# Altium integrated library Infineon_Microcontroller.IntLib: 721 symbols (part 34 of 66)
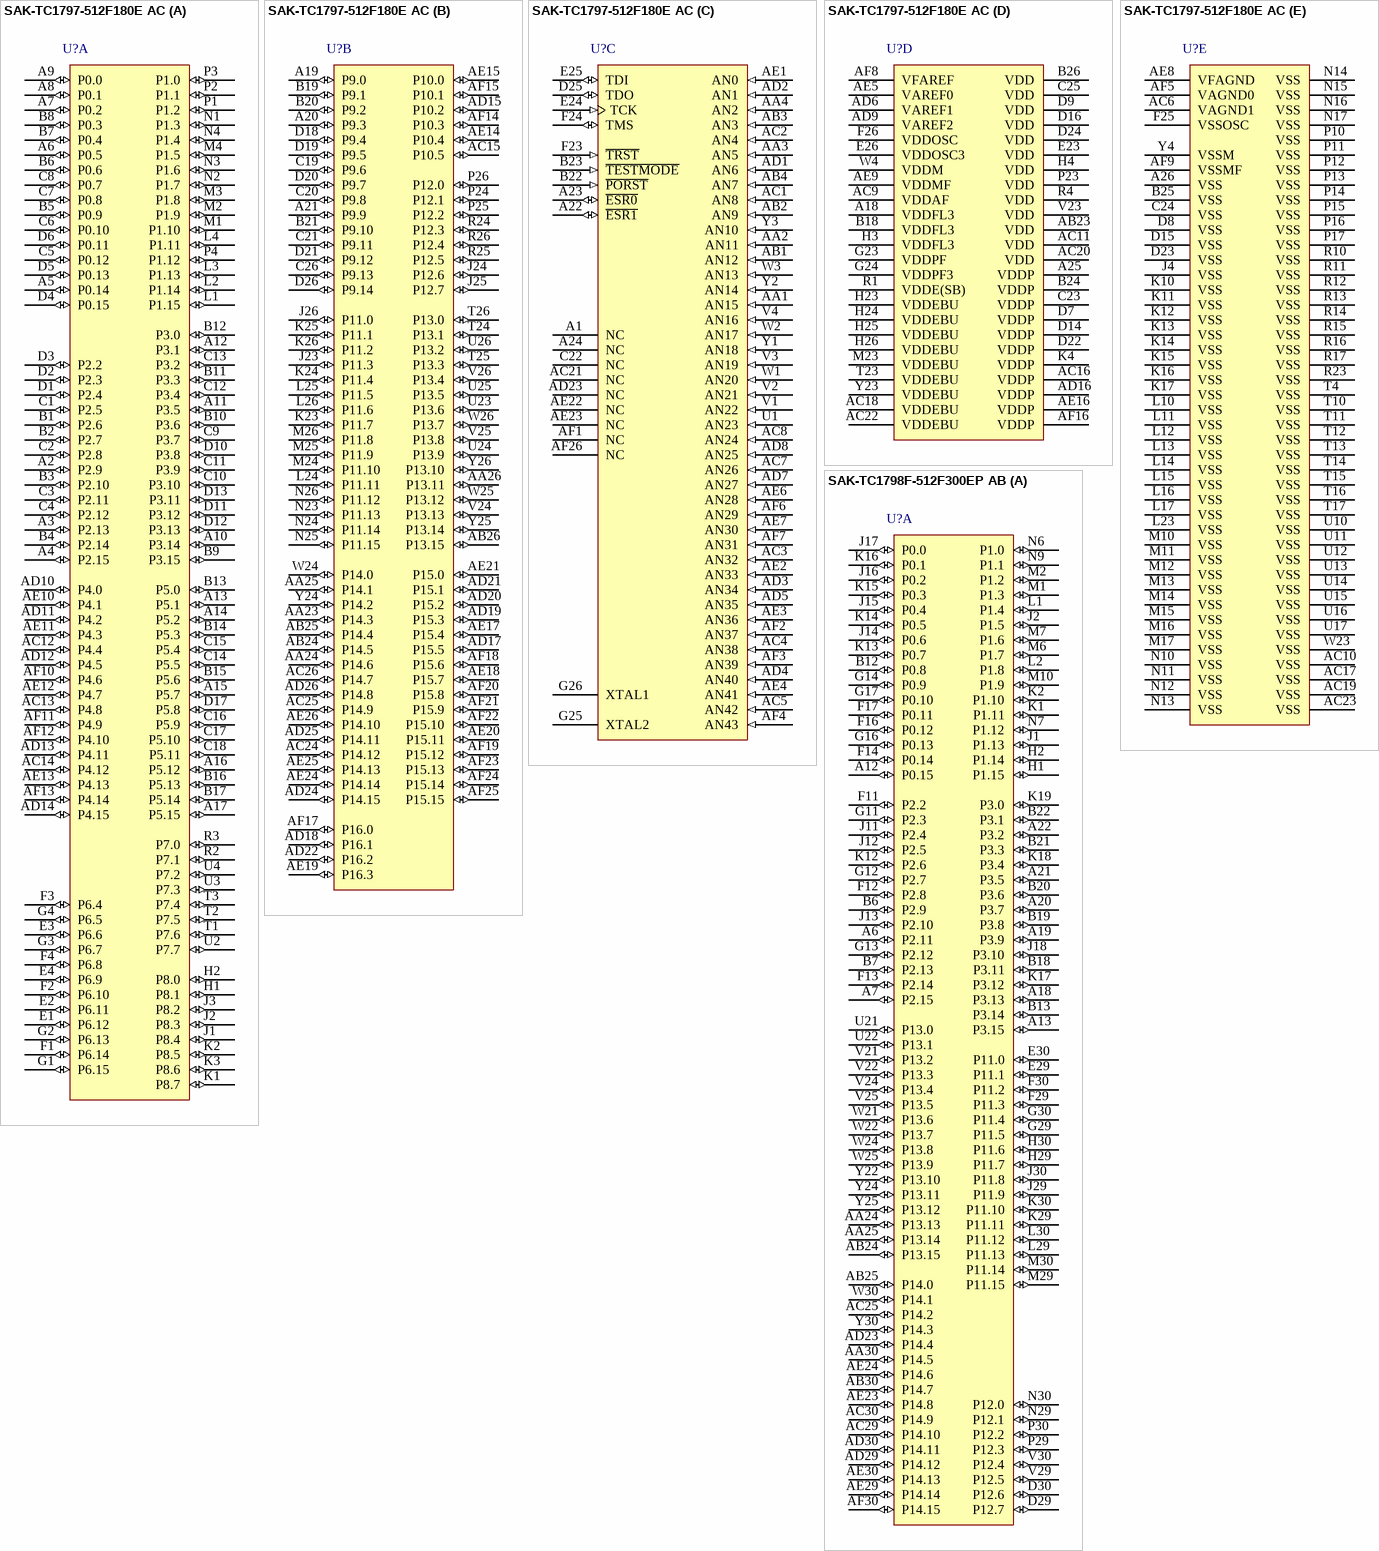
[diagram p151: symbols SAK-TC1797-512F180E AC to SAK-TC1798F-512F300EP AB]

## SAK-TC1797-512F180E AC
designator U?
180 MHz AUDO MCU with 4 MB Program Memory, 224 KByte SRAM, 3.3 V; 5 V, -40 to 125 degC, PG-BGA-416, Reel, Green; Manufacturer: Infineon; PartNumber: SAK-TC1797-512F180E AC; A / D input lines (incl. FADC): 48; CAN Nodes: 4; Digital I/O Lines: 221; DMA Channels: 16; DSP functionality (e.g MDU/MAC): TRUE; I/O Operation Voltages: 3.3 V, 5 V; Instruction set architecture: TriCore v1.3.1; Instruction width [bits]: 32/16; LIN BSL loader (for fast Flash programming): FALSE; Max Clock Frequency: 180 MHz; Number of ADC Modules: 3; On-chip Voltage Regulator: FALSE; Program Memory: 4 MB; Serial I/O Interfaces: 8; Timed I/O Pins (PWM-Ch,CAPCOM): 118; Timer / Counter: 228; Type of Memory: Flash; Type of Serial I/O Interfaces: ASC(2), SSC(2), MSC(2), MLI(2); DatasheetVersion: Rev. 1.2; PackageVersion: Feb-08; PackageReference: PG-BGA-416-10; PackageDescription: 416-Pin Plastic (Green) Ball Grid Array Package, Body 27 x 27 mm, Pitch 1 mm; Supplier 1: Digi-Key; Supplier Part Number 1: SAK-TC1797-512F180E AC-ND; E2PROM Emulation (Data-Flash): TRUE; External Bus interface: TRUE; FlexRay TM: TRUE; Floating Point Unit: TRUE; Green: TRUE; Halogen-free: TRUE; On-chip clock generation: TRUE; Oscillator Watchdog: TRUE; Packing: Reel; Peripheral Control Processor (PCP): TRUE; Power Modes: 3; SRAM (incl. Cache): 224 KByte; Watchdog Timer: TRUE; Mounting Technology: Surface Mount; ComponentLink1Description: Manufacturer URL; ComponentLink1URL: http://www.infineon.com/; ComponentLink2Description: Datasheet; ComponentLink2URL: http://www.infineon.com/dgdl/TC1797_DS_V1+2.pdf?folderId=db3a3043156fd5730115b892639c0e97&fileId=db3a30431ed1d7b2011efeaa4ad16b6d; ComponentLink3Description: Package Specification; ComponentLink3URL: http://www.infineon.com/dgdl/PG-BGA-416-4%2C-10%2C-13%2C-14-Package_Overview.pdf?folderId=db3a304317a748360117ac3a3cfd7449&fileId=db3a304317a748360117b12de3bd682e
footprint INF-PG-BGA-416-10 (BGA, 416-Balls, Body 27x27mm, Pitch 1mm)
part A pins: A2 P2.9 (io), A3 P2.13 (io), A4 P2.15 (io), A5 P0.14 (io), A6 P0.5 (io), A7 P0.2 (io), A8 P0.1 (io), A9 P0.0 (io), A10 P3.14 (io), A11 P3.5 (io), A12 P3.1 (io), A13 P5.1 (io), A14 P5.2 (io), A15 P5.7 (io), A16 P5.12 (io), A17 P5.15 (io), AC12 P4.4 (io), AC13 P4.8 (io), AC14 P4.12 (io), AD10 P4.0 (io), AD11 P4.2 (io), AD12 P4.5 (io), AD13 P4.11 (io), AD14 P4.15 (io), AE10 P4.1 (io), AE11 P4.3 (io), AE12 P4.7 (io), AE13 P4.13 (io), AF10 P4.6 (io), AF11 P4.9 (io), AF12 P4.10 (io), AF13 P4.14 (io), B1 P2.6 (io), B2 P2.7 (io), B3 P2.10 (io), B4 P2.14 (io), B5 P0.9 (io), B6 P0.6 (io), B7 P0.4 (io), B8 P0.3 (io), B9 P3.15 (io), B10 P3.6 (io), B11 P3.3 (io), B12 P3.0 (io), B13 P5.0 (io), B14 P5.3 (io), B15 P5.6 (io), B16 P5.13 (io), B17 P5.14 (io), C1 P2.5 (io), C2 P2.8 (io), C3 P2.11 (io), C4 P2.12 (io), C5 P0.12 (io), C6 P0.10 (io), C7 P0.8 (io), C8 P0.7 (io), C9 P3.7 (io), C10 P3.10 (io), C11 P3.9 (io), C12 P3.4 (io), C13 P3.2 (io), C14 P5.5 (io), C15 P5.4 (io), C16 P5.9 (io), C17 P5.10 (io), C18 P5.11 (io), D1 P2.4 (io), D2 P2.3 (io), D3 P2.2 (io), D4 P0.15 (io), D5 P0.13 (io), D6 P0.11 (io), D10 P3.8 (io), D11 P3.12 (io), D12 P3.13 (io), D13 P3.11 (io), D17 P5.8 (io), E1 P6.12 (io), E2 P6.11 (io), E3 P6.6 (io), E4 P6.9 (io), F1 P6.14 (io), F2 P6.10 (io), F3 P6.4 (io), F4 P6.8 (io), G1 P6.15 (io), G2 P6.13 (io), G3 P6.7 (io), G4 P6.5 (io), H1 P8.1 (io), H2 P8.0 (io), J1 P8.4 (io), J2 P8.3 (io), J3 P8.2 (io), K1 P8.7 (io), K2 P8.5 (io), K3 P8.6 (io), L1 P1.15 (io), L2 P1.14 (io), L3 P1.13 (io), L4 P1.11 (io), M1 P1.10 (io), M2 P1.9 (io), M3 P1.8 (io), M4 P1.5 (io), N1 P1.3 (io), N2 P1.7 (io), N3 P1.6 (io), N4 P1.4 (io), P1 P1.2 (io), P2 P1.1 (io), P3 P1.0 (io), P4 P1.12 (io), R2 P7.1 (io), R3 P7.0 (io), T1 P7.6 (io), T2 P7.5 (io), T3 P7.4 (io), U2 P7.7 (io), U3 P7.3 (io), U4 P7.2 (io)
part B pins: A19 P9.0 (io), A20 P9.3 (io), A21 P9.9 (io), AA23 P14.3 (io), AA24 P14.6 (io), AA25 P14.1 (io), AA26 P13.11 (io), AB24 P14.5 (io), AB25 P14.4 (io), AB26 P13.15 (io), AC15 P10.5 (io), AC24 P14.12 (io), AC25 P14.9 (io), AC26 P14.7 (io), AD15 P10.2 (io), AD17 P15.5 (io), AD18 P16.1 (io), AD19 P15.3 (io), AD20 P15.2 (io), AD21 P15.1 (io), AD22 P16.2 (io), AD24 P14.15 (io), AD25 P14.11 (io), AD26 P14.8 (io), AE14 P10.4 (io), AE15 P10.0 (io), AE17 P15.4 (io), AE18 P15.7 (io), AE19 P16.3 (io), AE20 P15.11 (io), AE21 P15.0 (io), AE24 P14.14 (io), AE25 P14.13 (io), AE26 P14.10 (io), AF14 P10.3 (io), AF15 P10.1 (io), AF17 P16.0 (io), AF18 P15.6 (io), AF19 P15.12 (io), AF20 P15.8 (io), AF21 P15.9 (io), AF22 P15.10 (io), AF23 P15.13 (io), AF24 P15.14 (io), AF25 P15.15 (io), B19 P9.1 (io), B20 P9.2 (io), B21 P9.10 (io), C19 P9.6 (io), C20 P9.8 (io), C21 P9.11 (io), C26 P9.13 (io), D18 P9.4 (io), D19 P9.5 (io), D20 P9.7 (io), D21 P9.12 (io), D26 P9.14 (io), J23 P11.3 (io), J24 P12.6 (io), J25 P12.7 (io), J26 P11.0 (io), K23 P11.7 (io), K24 P11.4 (io), K25 P11.1 (io), K26 P11.2 (io), L24 P11.11 (io), L25 P11.5 (io), L26 P11.6 (io), M24 P11.10 (io), M25 P11.9 (io), M26 P11.8 (io), N23 P11.13 (io), N24 P11.14 (io), N25 P11.15 (io), N26 P11.12 (io), P24 P12.1 (io), P25 P12.2 (io), P26 P12.0 (io), R24 P12.3 (io), R25 P12.5 (io), R26 P12.4 (io), T24 P13.1 (io), T25 P13.3 (io), T26 P13.0 (io), U23 P13.6 (io), U24 P13.9 (io), U25 P13.5 (io), U26 P13.2 (io), V24 P13.13 (io), V25 P13.8 (io), V26 P13.4 (io), W24 P14.0 (io), W25 P13.12 (io), W26 P13.7 (io), Y24 P14.2 (io), Y25 P13.14 (io), Y26 P13.10 (io)
part C pins: A1 NC "Not connected.", A22 ~{ESR1} (io) "External System Request Reset Input 1", A23 ~{ESR0} (io) "External System Request Reset Input 0", A24 NC "Not connected.", AA1 AN15 (in) "Analog Input 15", AA2 AN11 (in) "Analog Input 11", AA3 AN5 (in) "Analog Input 5", AA4 AN2 (in) "Analog Input 2", AB1 AN12 (in) "Analog Input 12", AB2 AN9 (in) "Analog Input 9", AB3 AN3 (in) "Analog Input 3", AB4 AN7 (in) "Analog Input 7", AC1 AN8 (in) "Analog Input 8", AC2 AN4 (in) "Analog Input 4", AC3 AN32 (in) "Analog Input 32", AC4 AN38 (in) "Analog Input 38", AC5 AN42 (in) "Analog Input 42", AC7 AN26 (in) "Analog Input 26", AC8 AN24 (in) "Analog Input 24", AC21 NC "Not connected.", AD1 AN6 (in) "Analog Input 6", AD2 AN1 (in) "Analog Input 1", AD3 AN34 (in) "Analog Input 34", AD4 AN40 (in) "Analog Input 40", AD5 AN35 (in) "Analog Input 35", AD7 AN27 (in) "Analog Input 27", AD8 AN25 (in) "Analog Input 25", AD23 NC "Not connected.", AE1 AN0 (in) "Analog Input 0", AE2 AN33 (in) "Analog Input 33", AE3 AN36 (in) "Analog Input 36", AE4 AN41 (in) "Analog Input 41", AE6 AN28 (in) "Analog Input 28", AE7 AN30 (in) "Analog Input 30", AE22 NC "Not connected.", AE23 NC "Not connected.", AF1 NC "Not connected.", AF2 AN37 (in) "Analog Input 37", AF3 AN39 (in) "Analog Input 39", AF4 AN43 (in) "Analog Input 43", AF6 AN29 (in) "Analog Input 29", AF7 AN31 (in) "Analog Input 31", AF26 NC "Not connected.", B22 ~{PORST} (in) "Power-on Reset Input", B23 ~{TESTMODE} (in) "Test Mode Select Input", C22 NC "Not connected.", D25 TDO (io), E24 TCK (in), E25 TDI (io), F23 ~{TRST} (in), F24 TMS (io), G25 XTAL2 "Main Oscillator/PLL/Clock Generator Output", G26 XTAL1 "Main Oscillator/PLL/Clock Generator Input", U1 AN23 (in) "Analog Input 23", V1 AN22 (in) "Analog Input 22", V2 AN21 (in) "Analog Input 21", V3 AN19 (in) "Analog Input 19", V4 AN16 (in) "Analog Input 16", W1 AN20 (in) "Analog Input 20", W2 AN17 (in) "Analog Input 17", W3 AN13 (in) "Analog Input 13", Y1 AN18 (in) "Analog Input 18", Y2 AN14 (in) "Analog Input 14", Y3 AN10 (in) "Analog Input 10"
part D pins: A18 VDDFL3 (power) "Flash Power Supply (3.3V)", A25 VDDP (power) "Port Power Supply (3.3V)", AB23 VDD (power) "Digital Core Power Supply (1.5V)", AC9 VDDAF (power) "FADC Analog Part Logic Power Supply (1.5V)", AC11 VDD (power) "Digital Core Power Supply (1.5V)", AC16 VDDP (power) "Port Power Supply (3.3V)", AC18 VDDEBU (power) "EBU Port Power Supply (2.5V - 3.3V)", AC20 VDD (power) "Digital Core Power Supply (1.5V)", AC22 VDDEBU (power) "EBU Port Power Supply (2.5V - 3.3V)", AD6 VAREF1 (power) "ADC1 Reference Voltage", AD9 VAREF2 (power) "ADC2 Reference Voltage", AD16 VDDP (power) "Port Power Supply (3.3V)", AE5 VAREF0 (power) "ADC0 Reference Voltage", AE9 VDDMF (power) "FADC Analog Part Power Supply (3.3V)", AE16 VDDP (power) "Port Power Supply (3.3V)", AF8 VFAREF (power) "FADC Reference Voltage", AF16 VDDP (power) "Port Power Supply (3.3V)", B18 VDDFL3 (power) "Flash Power Supply (3.3V)", B24 VDDP (power) "Port Power Supply (3.3V)", B26 VDD (power) "Digital Core Power Supply (1.5V)", C23 VDDP (power) "Port Power Supply (3.3V)", C25 VDD (power) "Digital Core Power Supply (1.5V)", D7 VDDP (power) "Port Power Supply (3.3V)", D9 VDD (power) "Digital Core Power Supply (1.5V)", D14 VDDP (power) "Port Power Supply (3.3V)", D16 VDD (power) "Digital Core Power Supply (1.5V)", D22 VDDP (power) "Port Power Supply (3.3V)", D24 VDD (power) "Digital Core Power Supply (1.5V)", E23 VDD (power) "Digital Core Power Supply (1.5V)", E26 VDDOSC3 (power) "Main Oscillator Power Supply (3.3V)", F26 VDDOSC (power) "Main Oscillator Power Supply (1.5V)", G23 VDDPF (power) "E-Ray PLL Power Supply (1.5V)", G24 VDDPF3 (power) "E-Ray PLL Power Supply (3.3V)", H3 VDDFL3 (power) "Flash Power Supply (3.3V)", H4 VDD (power) "Digital Core Power Supply (1.5V)", H23 VDDEBU (power) "EBU Port Power Supply (2.5V - 3.3V)", H24 VDDEBU (power) "EBU Port Power Supply (2.5V - 3.3V)", H25 VDDEBU (power) "EBU Port Power Supply (2.5V - 3.3V)", H26 VDDEBU (power) "EBU Port Power Supply (2.5V - 3.3V)", K4 VDDP (power) "Port Power Supply (3.3V)", M23 VDDEBU (power) "EBU Port Power Supply (2.5V - 3.3V)", P23 VDD (power) "Digital Core Power Supply (1.5V)", R1 VDDE(SB) (power) "Emulation Stand-by SRAM Power Supply (1.5V) (Emulation device only)", R4 VDD (power) "Digital Core Power Supply (1.5V)", T23 VDDEBU (power) "EBU Port Power Supply (2.5V - 3.3V)", V23 VDD (power) "Digital Core Power Supply (1.5V)", W4 VDDM (power) "ADC Analog Part Power Supply (3.3V - 5V)", Y23 VDDEBU (power) "EBU Port Power Supply (2.5V - 3.3V)"
part E pins: A26 VSS (power) "Digital Ground (outer balls)", AC6 VAGND1 (power) "ADC1 Reference Ground", AC10 VSS (power) "Digital Ground (outer balls)", AC17 VSS (power) "Digital Ground (outer balls)", AC19 VSS (power) "Digital Ground (outer balls)", AC23 VSS (power) "Digital Ground (outer balls)", AE8 VFAGND (power) "FADC Reference Ground", AF5 VAGND0 (power), AF9 VSSMF (power), B25 VSS (power) "Digital Ground (outer balls)", C24 VSS (power) "Digital Ground (outer balls)", D8 VSS (power) "Digital Ground (outer balls)", D15 VSS (power) "Digital Ground (outer balls)", D23 VSS (power) "Digital Ground (outer balls)", F25 VSSOSC (power), J4 VSS (power) "Digital Ground (outer balls)", K10 VSS (power) "Digital Ground (center balls)", K11 VSS (power) "Digital Ground (center balls)", K12 VSS (power) "Digital Ground (center balls)", K13 VSS (power) "Digital Ground (center balls)", K14 VSS (power) "Digital Ground (center balls)", K15 VSS (power) "Digital Ground (center balls)", K16 VSS (power) "Digital Ground (center balls)", K17 VSS (power) "Digital Ground (center balls)", L10 VSS (power) "Digital Ground (center balls)", L11 VSS (power) "Digital Ground (center balls)", L12 VSS (power) "Digital Ground (center balls)", L13 VSS (power) "Digital Ground (center balls)", L14 VSS (power) "Digital Ground (center balls)", L15 VSS (power) "Digital Ground (center balls)", L16 VSS (power) "Digital Ground (center balls)", L17 VSS (power) "Digital Ground (center balls)", L23 VSS (power) "Digital Ground (outer balls)", M10 VSS (power) "Digital Ground (center balls)", M11 VSS (power) "Digital Ground (center balls)", M12 VSS (power) "Digital Ground (center balls)", M13 VSS (power) "Digital Ground (center balls)", M14 VSS (power) "Digital Ground (center balls)", M15 VSS (power) "Digital Ground (center balls)", M16 VSS (power) "Digital Ground (center balls)", M17 VSS (power) "Digital Ground (center balls)", N10 VSS (power) "Digital Ground (center balls)", N11 VSS (power) "Digital Ground (center balls)", N12 VSS (power) "Digital Ground (center balls)", N13 VSS (power) "Digital Ground (center balls)", N14 VSS (power) "Digital Ground (center balls)", N15 VSS (power) "Digital Ground (center balls)", N16 VSS (power) "Digital Ground (center balls)", N17 VSS (power) "Digital Ground (center balls)", P10 VSS (power) "Digital Ground (center balls)", P11 VSS (power) "Digital Ground (center balls)", P12 VSS (power) "Digital Ground (center balls)", P13 VSS (power) "Digital Ground (center balls)", P14 VSS (power) "Digital Ground (center balls)", P15 VSS (power) "Digital Ground (center balls)", P16 VSS (power) "Digital Ground (center balls)", P17 VSS (power) "Digital Ground (center balls)", R10 VSS (power) "Digital Ground (center balls)", R11 VSS (power) "Digital Ground (center balls)", R12 VSS (power) "Digital Ground (center balls)", R13 VSS (power) "Digital Ground (center balls)", R14 VSS (power) "Digital Ground (center balls)", R15 VSS (power) "Digital Ground (center balls)", R16 VSS (power) "Digital Ground (center balls)", R17 VSS (power) "Digital Ground (center balls)", R23 VSS (power) "Digital Ground (outer balls)", T4 VSS (power) "Digital Ground (outer balls)", T10 VSS (power) "Digital Ground (center balls)", T11 VSS (power) "Digital Ground (center balls)", T12 VSS (power) "Digital Ground (center balls)", T13 VSS (power) "Digital Ground (center balls)", T14 VSS (power) "Digital Ground (center balls)", T15 VSS (power) "Digital Ground (center balls)", T16 VSS (power) "Digital Ground (center balls)", T17 VSS (power) "Digital Ground (center balls)", U10 VSS (power) "Digital Ground (center balls)", U11 VSS (power) "Digital Ground (center balls)", U12 VSS (power) "Digital Ground (center balls)", U13 VSS (power) "Digital Ground (center balls)", U14 VSS (power) "Digital Ground (center balls)", U15 VSS (power) "Digital Ground (center balls)", U16 VSS (power) "Digital Ground (center balls)", U17 VSS (power) "Digital Ground (center balls)", W23 VSS (power) "Digital Ground (outer balls)", Y4 VSSM (power) "ADC Analog Part Ground"

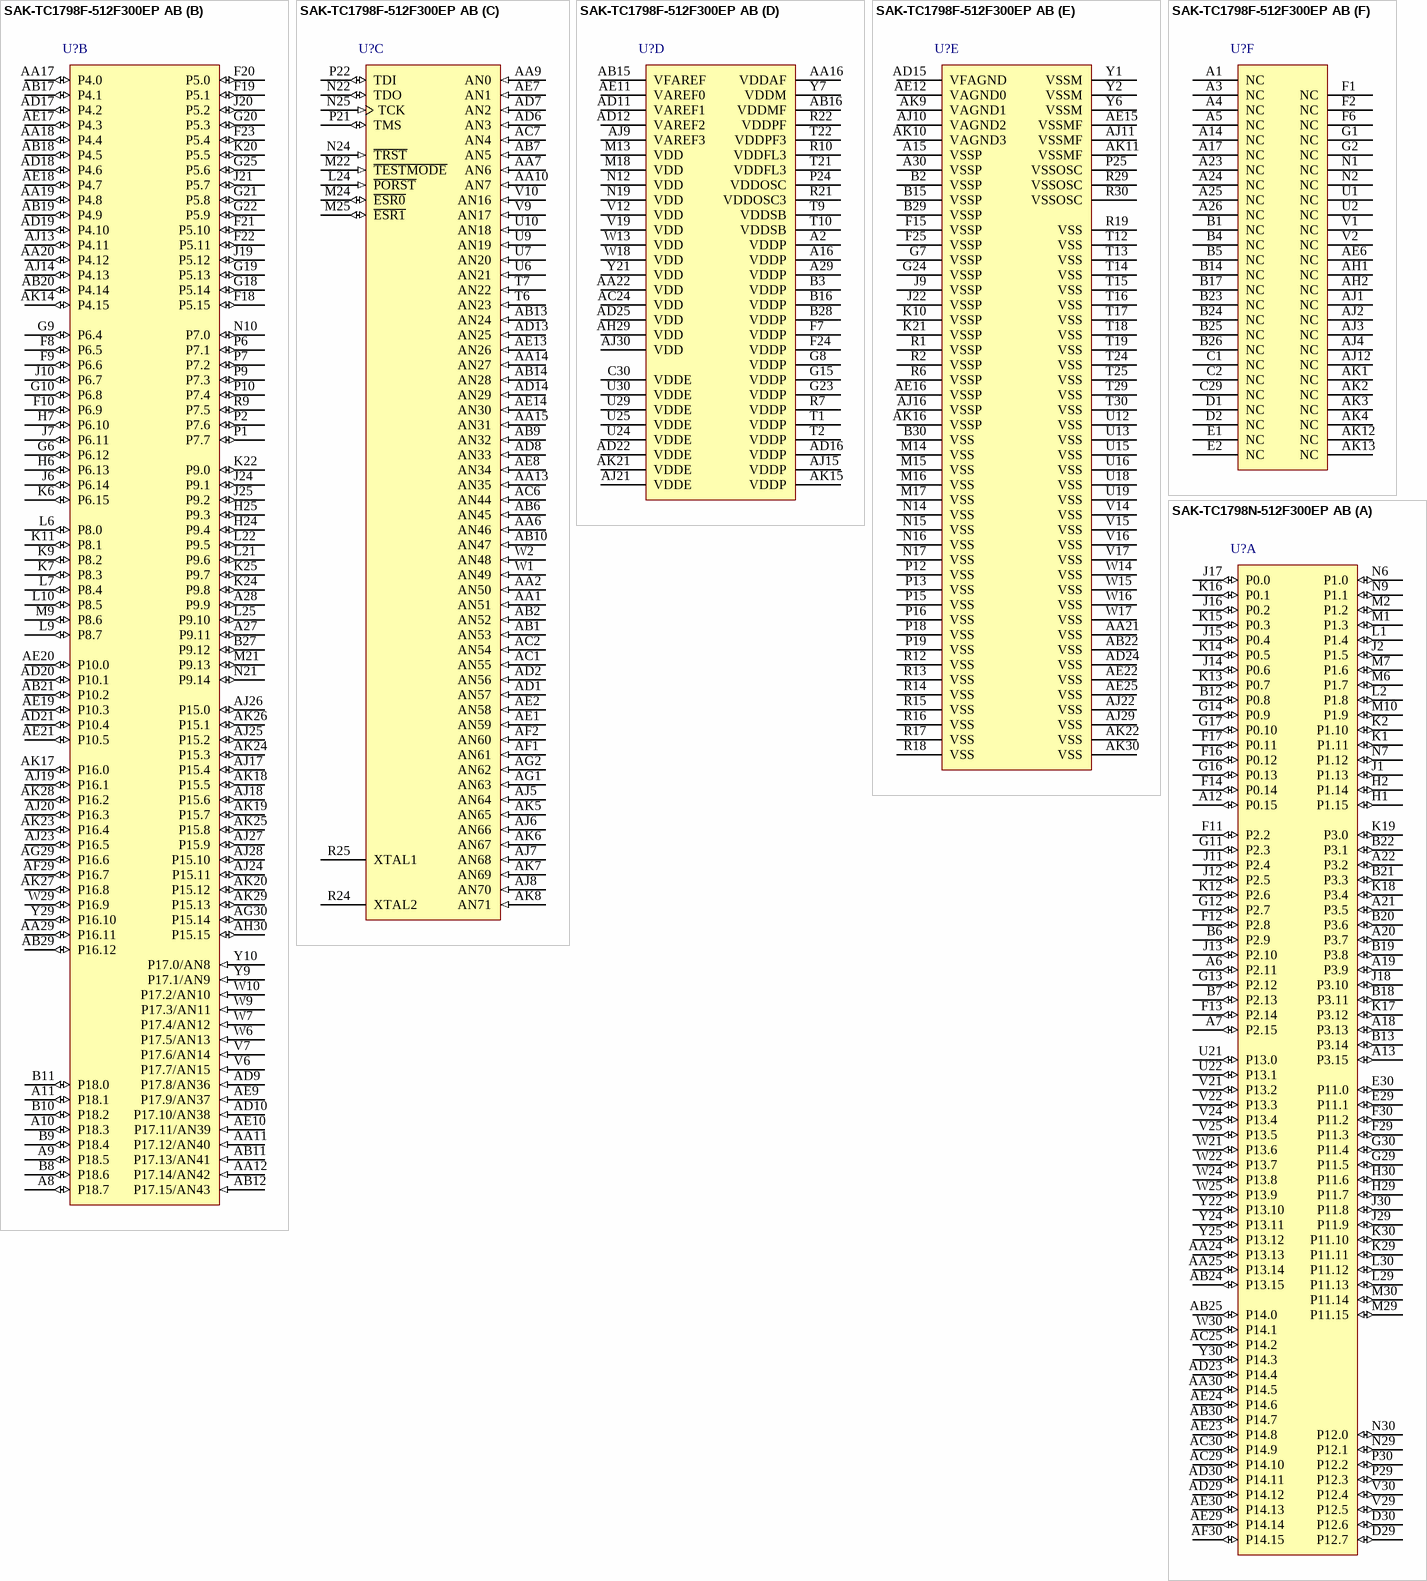
[diagram p61: symbols SAK-TC1798F-512F300EP AB to SAK-TC1798N-512F300EP AB]

## SAK-TC1798F-512F300EP AB
designator U?
300 MHz AUDO MCU with 4 MB Program Memory, 288 KByte SRAM, 3.3 V, -40 to 125 degC, PG-LFBGA-516, Reel, Green; Manufacturer: Infineon; PartNumber: SAK-TC1798F-512F300EP AB; A / D input lines (incl. FADC): 72; CAN Nodes: 4; Digital I/O Lines: 238; DMA Channels: 24; DSP functionality (e.g MDU/MAC): TRUE; I/O Operation Voltages: 3.3 V; Instruction set architecture: TriCore v1.6; Instruction width [bits]: 32/16; LIN BSL loader (for fast Flash programming): FALSE; Max Clock Frequency: 300 MHz; On-chip Voltage Regulator: FALSE; Power Modes: 3; Program Memory: 4 MB; Serial I/O Interfaces: 9; Timed I/O Pins (PWM-Ch,CAPCOM): 138; Timer / Counter: 246; Type of Memory: Flash; Type of Serial I/O Interfaces: ASC(2), SSC(3), MSC(2), MLI(2); DatasheetVersion: Rev. 1.0; PackageVersion: V 1.0, 03/2012; PackageReference: PG-LFBGA-516-1; PackageDescription: 516-Pin Plastic (Green) Low Profile Fine Pitch Ball Grid Array Package, Body 25 x 25 mm, Pitch 0.8 mm; E2PROM Emulation (Data-Flash): TRUE; External Bus interface: TRUE; FlexRay TM: TRUE; Floating Point Unit: TRUE; Green: TRUE; Halogen-free: TRUE; Number of ADC Modules: 4; On-chip clock generation: TRUE; Oscillator Watchdog: TRUE; Packing: Reel; Peripheral Control Processor (PCP): TRUE; SRAM (incl. Cache): 288 KByte; Watchdog Timer: TRUE; Mounting Technology: Surface Mount; Code_JEDEC: J-STD-020C; ComponentLink1Description: Manufacturer URL; ComponentLink1URL: http://www.infineon.com/; ComponentLink2Description: Datasheet; ComponentLink2URL: http://www.infineon.com/dgdl/TC1798_DS_v10.pdf?folderId=db3a304326dfb1300127000d958f65bb&fileId=db3a304336797ff90136ab7ac48c4d00; ComponentLink3Description: Package Specification; ComponentLink3URL: http://www.infineon.com/dgdl/TC1798_DS_v10.pdf?folderId=db3a304326dfb1300127000d958f65bb&fileId=db3a304336797ff90136ab7ac48c4d00
footprint INF-PG-LFBGA-516-1 (BGA, 516-Balls, Body 25x25mm, Pitch 0.8mm)
part A pins: A6 P2.11 (io), A7 P2.15 (io), A12 P0.15 (io), A13 P3.15 (io), A18 P3.13 (io), A19 P3.9 (io), A20 P3.7 (io), A21 P3.5 (io), A22 P3.2 (io), AA24 P13.13 (io), AA25 P13.14 (io), AA30 P14.5 (io), AB24 P13.15 (io), AB25 P14.0 (io), AB30 P14.7 (io), AC25 P14.2 (io), AC29 P14.10 (io), AC30 P14.9 (io), AD23 P14.4 (io), AD29 P14.12 (io), AD30 P14.11 (io), AE23 P14.8 (io), AE24 P14.6 (io), AE29 P14.14 (io), AE30 P14.13 (io), AF30 P14.15 (io), B6 P2.9 (io), B7 P2.13 (io), B12 P0.8 (io), B13 P3.14 (io), B18 P3.11 (io), B19 P3.8 (io), B20 P3.6 (io), B21 P3.3 (io), B22 P3.1 (io), D29 P12.7 (io), D30 P12.6 (io), E29 P11.1 (io), E30 P11.0 (io), F11 P2.2 (io), F12 P2.8 (io), F13 P2.14 (io), F14 P0.14 (io), F16 P0.12 (io), F17 P0.11 (io), F29 P11.3 (io), F30 P11.2 (io), G11 P2.3 (io), G12 P2.7 (io), G13 P2.12 (io), G14 P0.9 (io), G16 P0.13 (io), G17 P0.10 (io), G29 P11.5 (io), G30 P11.4 (io), H1 P1.15 (io), H2 P1.14 (io), H29 P11.7 (io), H30 P11.6 (io), J1 P1.13 (io), J2 P1.5 (io), J11 P2.4 (io), J12 P2.5 (io), J13 P2.10 (io), J14 P0.6 (io), J15 P0.4 (io), J16 P0.2 (io), J17 P0.0 (io), J18 P3.10 (io), J29 P11.9 (io), J30 P11.8 (io), K1 P1.11 (io), K2 P1.10 (io), K12 P2.6 (io), K13 P0.7 (io), K14 P0.5 (io), K15 P0.3 (io), K16 P0.1 (io), K17 P3.12 (io), K18 P3.4 (io), K19 P3.0 (io), K29 P11.11 (io), K30 P11.10 (io), L1 P1.4 (io), L2 P1.8 (io), L29 P11.13 (io), L30 P11.12 (io), M1 P1.3 (io), M2 P1.2 (io), M6 P1.7 (io), M7 P1.6 (io), M10 P1.9 (io), M29 P11.15 (io), M30 P11.14 (io), N6 P1.0 (io), N7 P1.12 (io), N9 P1.1 (io), N29 P12.1 (io), N30 P12.0 (io), P29 P12.3 (io), P30 P12.2 (io), U21 P13.0 (io), U22 P13.1 (io), V21 P13.2 (io), V22 P13.3 (io), V24 P13.4 (io), V25 P13.5 (io), V29 P12.5 (io), V30 P12.4 (io), W21 P13.6 (io), W22 P13.7 (io), W24 P13.8 (io), W25 P13.9 (io), W30 P14.1 (io), Y22 P13.10 (io), Y24 P13.11 (io), Y25 P13.12 (io), Y30 P14.3 (io)
part B pins: A8 P18.7 (io), A9 P18.5 (io), A10 P18.3 (io), A11 P18.1 (io), A27 P9.11 (io), A28 P9.9 (io), AA11 P17.12/AN40 (in), AA12 P17.14/AN42 (in), AA17 P4.0 (io), AA18 P4.4 (io), AA19 P4.8 (io), AA20 P4.12 (io), AA29 P16.11 (io), AB11 P17.13/AN41 (in), AB12 P17.15/AN43 (in), AB17 P4.1 (io), AB18 P4.5 (io), AB19 P4.9 (io), AB20 P4.14 (io), AB21 P10.2 (io), AB29 P16.12 (io), AD9 P17.8/AN36 (in), AD10 P17.10/AN38 (in), AD17 P4.2 (io), AD18 P4.6 (io), AD19 P4.10 (io), AD20 P10.1 (io), AD21 P10.4 (io), AE9 P17.9/AN37 (in), AE10 P17.11/AN39 (in), AE17 P4.3 (io), AE18 P4.7 (io), AE19 P10.3 (io), AE20 P10.0 (io), AE21 P10.5 (io), AF29 P16.7 (io), AG29 P16.6 (io), AG30 P15.14 (io), AH30 P15.15 (io), AJ13 P4.11 (io), AJ14 P4.13 (io), AJ17 P15.4 (io), AJ18 P15.6 (io), AJ19 P16.1 (io), AJ20 P16.3 (io), AJ23 P16.5 (io), AJ24 P15.11 (io), AJ25 P15.2 (io), AJ26 P15.0 (io), AJ27 P15.9 (io), AJ28 P15.10 (io), AK14 P4.15 (io), AK17 P16.0 (io), AK18 P15.5 (io), AK19 P15.7 (io), AK20 P15.12 (io), AK23 P16.4 (io), AK24 P15.3 (io), AK25 P15.8 (io), AK26 P15.1 (io), AK27 P16.8 (io), AK28 P16.2 (io), AK29 P15.13 (io), B8 P18.6 (io), B9 P18.4 (io), B10 P18.2 (io), B11 P18.0 (io), B27 P9.12 (io), F8 P6.5 (io), F9 P6.6 (io), F10 P6.9 (io), F18 P5.15 (io), F19 P5.1 (io), F20 P5.0 (io), F21 P5.10 (io), F22 P5.11 (io), F23 P5.4 (io), G6 P6.12 (io), G9 P6.4 (io), G10 P6.8 (io), G18 P5.14 (io), G19 P5.13 (io), G20 P5.3 (io), G21 P5.8 (io), G22 P5.9 (io), G25 P5.6 (io), H6 P6.13 (io), H7 P6.10 (io), H24 P9.4 (io), H25 P9.3 (io), J6 P6.14 (io), J7 P6.11 (io), J10 P6.7 (io), J19 P5.12 (io), J20 P5.2 (io), J21 P5.7 (io), J24 P9.1 (io), J25 P9.2 (io), K6 P6.15 (io), K7 P8.3 (io), K9 P8.2 (io), K11 P8.1 (io), K20 P5.5 (io), K22 P9.0 (io), K24 P9.8 (io), K25 P9.7 (io), L6 P8.0 (io), L7 P8.4 (io), L9 P8.7 (io), L10 P8.5 (io), L21 P9.6 (io), L22 P9.5 (io), L25 P9.10 (io), M9 P8.6 (io), M21 P9.13 (io), N10 P7.0 (io), N21 P9.14 (io), P1 P7.7 (io), P2 P7.6 (io), P6 P7.1 (io), P7 P7.2 (io), P9 P7.3 (io), P10 P7.4 (io), R9 P7.5 (io), V6 P17.7/AN15 (in), V7 P17.6/AN14 (in), W6 P17.5/AN13 (in), W7 P17.4/AN12 (in), W9 P17.3/AN11 (in), W10 P17.2/AN10 (in), W29 P16.9 (io), Y9 P17.1/AN9 (in), Y10 P17.0/AN8 (in), Y29 P16.10 (io)
part C pins: AA1 AN51 (in) "Analog Input 51: ADC3.CH3", AA2 AN50 (in) "Analog Input 50: ADC3.CH2", AA6 AN46 (in) "Analog Input 46: ADC2.CH14", AA7 AN6 (in) "Analog Input 6: ADC0.CH6", AA9 AN0 (in) "Analog Input 0: ADC0.CH0", AA10 AN7 (in) "Analog Input 7: ADC0.CH7", AA13 AN35 (in) "Analog Input 35: ADC2.CH3", AA14 AN27 (in) "Analog Input 27: ADC1.CH11", AA15 AN31 (in) "Analog Input 31: ADC1.CH15", AB1 AN53 (in) "Analog Input 53: ADC3.CH5", AB2 AN52 (in) "Analog Input 52: ADC3.CH4", AB6 AN45 (in) "Analog Input 45: ADC2.CH13", AB7 AN5 (in) "Analog Input 5: ADC0.CH5", AB9 AN32 (in) "Analog Input 32: ADC2.CH0", AB10 AN47 (in) "Analog Input 47: ADC2.CH15", AB13 AN24 (in) "Analog Input 24: ADC1.CH8", AB14 AN28 (in) "Analog Input 28: ADC1.CH12", AC1 AN55 (in) "Analog Input 55: ADC3.CH7", AC2 AN54 (in) "Analog Input 54: ADC3.CH6", AC6 AN44 (in) "Analog Input 44: ADC2.CH12", AC7 AN4 (in) "Analog Input 4: ADC0.CH4", AD1 AN57 (in) "Analog Input 57: ADC3.CH9", AD2 AN56 (in) "Analog Input 56: ADC3.CH8", AD6 AN3 (in) "Analog Input 3: ADC0.CH3", AD7 AN2 (in) "Analog Input 2: ADC0.CH2", AD8 AN33 (in) "Analog Input 33: ADC2.CH1", AD13 AN25 (in) "Analog Input 25: ADC1.CH9", AD14 AN29 (in) "Analog Input 29: ADC1.CH13", AE1 AN59 (in) "Analog Input 59: ADC3.CH11", AE2 AN58 (in) "Analog Input 58: ADC3.CH10", AE7 AN1 (in) "Analog Input 1: ADC0.CH1", AE8 AN34 (in) "Analog Input 34: ADC2.CH2", AE13 AN26 (in) "Analog Input 26: ADC1.CH10", AE14 AN30 (in) "Analog Input 30: ADC1.CH14", AF1 AN61 (in) "Analog Input 61: ADC3.CH13", AF2 AN60 (in) "Analog Input 60: ADC3.CH12", AG1 AN63 (in) "Analog Input 63: ADC3.CH15", AG2 AN62 (in) "Analog Input 62: ADC3.CH14", AJ5 AN64 (in) "Analog Input 64: FADC_FADIN0P", AJ6 AN66 (in) "Analog Input 66: FADC_FADIN1P", AJ7 AN68 (in) "Analog Input 68: FADC_FADIN2P", AJ8 AN70 (in) "Analog Input 70: FADC_FADIN3P", AK5 AN65 (in) "Analog Input 65: FADC_FADIN0N", AK6 AN67 (in) "Analog Input 67: FADC_FADIN1N", AK7 AN69 (in) "Analog Input 69: FADC_FADIN2N", AK8 AN71 (in) "Analog Input 71: FADC_FADIN3N", L24 ~{PORST} (in) "Power-on Reset Input", M22 ~{TESTMODE} (in) "Test Mode Select Input", M24 ~{ESR0} (io) "External System Request Reset Input 0", M25 ~{ESR1} (io) "External System Request Reset Input 1", N22 TDO (io), N24 ~{TRST} (in) "JTAG Module Reset/Enable Input", N25 TCK (in), P21 TMS (io), P22 TDI (io), R24 XTAL2 "Main Oscillator/PLL/Clock Generator Output", R25 XTAL1 "Main Oscillator/PLL/Clock Generator Input", T6 AN23 (in) "Analog Input 23: ADC1.CH7", T7 AN22 (in) "Analog Input 22: ADC1.CH6", U6 AN21 (in) "Analog Input 21: ADC1.CH5", U7 AN20 (in) "Analog Input 20: ADC1.CH4", U9 AN19 (in) "Analog Input 19: ADC1.CH3", U10 AN18 (in) "Analog Input 18: ADC1.CH2", V9 AN17 (in) "Analog Input 17: ADC1.CH1", V10 AN16 (in) "Analog Input 16: ADC1.CH0", W1 AN49 (in) "Analog Input 49: ADC3.CH1", W2 AN48 (in) "Analog Input 48: ADC3.CH0"
part D pins: A2 VDDP (power) "Port Power Supply (3.3V)", A16 VDDP (power) "Port Power Supply (3.3V)", A29 VDDP (power) "Port Power Supply (3.3V)", AA16 VDDAF (power) "FADC Analog Part Logic Power Supply (1.3V)", AA22 VDD (power) "Digital Core Power Supply (1.3V)", AB15 VFAREF (power) "FADC Reference Voltage", AB16 VDDMF (power) "FADC Analog Part Power Supply (3.3V)", AC24 VDD (power) "Digital Core Power Supply (1.3V)", AD11 VAREF1 (power) "ADC1 Reference Voltage", AD12 VAREF2 (power) "ADC2 Reference Voltage", AD16 VDDP (power) "Port Power Supply (3.3V)", AD22 VDDE (power) "EBU Port Power Supply (1.8 - 2.5V - 3.3V)", AD25 VDD (power) "Digital Core Power Supply (1.3V)", AE11 VAREF0 (power) "ADC0 Reference Voltage", AH29 VDD (power) "Digital Core Power Supply (1.3V)", AJ9 VAREF3 (power) "ADC3 Reference Voltage", AJ15 VDDP (power) "Port Power Supply (3.3V)", AJ21 VDDE (power) "EBU Port Power Supply (1.8 - 2.5V - 3.3V)", AJ30 VDD (power) "Digital Core Power Supply (1.3V)", AK15 VDDP (power) "Port Power Supply (3.3V)", AK21 VDDE (power) "EBU Port Power Supply (1.8 - 2.5V - 3.3V)", B3 VDDP (power) "Port Power Supply (3.3V)", B16 VDDP (power) "Port Power Supply (3.3V)", B28 VDDP (power) "Port Power Supply (3.3V)", C30 VDDE (power) "EBU Port Power Supply (1.8 - 2.5V - 3.3V)", F7 VDDP (power) "Port Power Supply (3.3V)", F24 VDDP (power) "Port Power Supply (3.3V)", G8 VDDP (power) "Port Power Supply (3.3V)", G15 VDDP (power) "Port Power Supply (3.3V)", G23 VDDP (power) "Port Power Supply (3.3V)", M13 VDD (power) "Digital Core Power Supply (1.3V, center balls)", M18 VDD (power) "Digital Core Power Supply (1.3V, center balls)", N12 VDD (power) "Digital Core Power Supply (1.3V, center balls)", N19 VDD (power) "Digital Core Power Supply (1.3V, center balls)", P24 VDDOSC (power) "Main Oscillator Power Supply (1.3V)", R7 VDDP (power) "Port Power Supply (3.3V)", R10 VDDFL3 (power) "Flash Power Supply (3.3V)", R21 VDDOSC3 (power) "Main Oscillator Power Supply (3.3V)", R22 VDDPF (power) "E-Ray PLL Power Supply (1.3V)", T1 VDDP (power) "Port Power Supply (3.3V)", T2 VDDP (power) "Port Power Supply (3.3V)", T9 VDDSB (power) "Emulation Stand-by SRAM Power Supply (1.3V) (Emulation device only)", T10 VDDSB (power) "Emulation Stand-by SRAM Power Supply (1.3V) (Emulation device only)", T21 VDDFL3 (power) "Flash Power Supply (3.3V)", T22 VDDPF3 (power) "E-Ray PLL Power Supply (3.3V)", U24 VDDE (power) "EBU Port Power Supply (1.8 - 2.5V - 3.3V)", U25 VDDE (power) "EBU Port Power Supply (1.8 - 2.5V - 3.3V)", U29 VDDE (power) "EBU Port Power Supply (1.8 - 2.5V - 3.3V)", U30 VDDE (power) "EBU Port Power Supply (1.8 - 2.5V - 3.3V)", V12 VDD (power) "Digital Core Power Supply (1.3V, center balls)", V19 VDD (power) "Digital Core Power Supply (1.3V, center balls)", W13 VDD (power) "Digital Core Power Supply (1.3V, center balls)", W18 VDD (power) "Digital Core Power Supply (1.3V, center balls)", Y7 VDDM (power) "ADC Analog Part Power Supply (3.3V - 5V)", Y21 VDD (power) "Digital Core Power Supply (1.3V)"
part E pins: A15 VSSP (power) "Digital Ground", A30 VSSP (power) "Digital Ground", AA21 VSS (power) "Digital Ground (center balls)", AB22 VSS (power) "Digital Ground (center balls)", AD15 VFAGND (power) "FADC Reference Ground", AD24 VSS (power) "Digital Ground (center balls)", AE12 VAGND0 (power) "ADC0 Reference Ground", AE15 VSSMF (power), AE16 VSSP (power) "Digital Ground", AE22 VSS (power) "Digital Ground", AE25 VSS (power) "Digital Ground (center balls)", AJ10 VAGND2 (power) "ADC2 Reference Ground", AJ11 VSSMF (power), AJ16 VSSP (power) "Digital Ground", AJ22 VSS (power) "Digital Ground", AJ29 VSS (power) "Digital Ground (center balls)", AK9 VAGND1 (power) "ADC1 Reference Ground", AK10 VAGND3 (power) "ADC3 Reference Ground", AK11 VSSMF (power), AK16 VSSP (power) "Digital Ground", AK22 VSS (power) "Digital Ground", AK30 VSS (power) "Digital Ground (center balls)", B2 VSSP (power) "Digital Ground", B15 VSSP (power) "Digital Ground", B29 VSSP (power) "Digital Ground", B30 VSS (power) "Digital Ground", F15 VSSP (power) "Digital Ground", F25 VSSP (power) "Digital Ground", G7 VSSP (power) "Digital Ground", G24 VSSP (power) "Digital Ground", J9 VSSP (power) "Digital Ground", J22 VSSP (power) "Digital Ground", K10 VSSP (power) "Digital Ground", K21 VSSP (power) "Digital Ground", M14 VSS (power) "Digital Ground (center balls)", M15 VSS (power) "Digital Ground (center balls)", M16 VSS (power) "Digital Ground (center balls)", M17 VSS (power) "Digital Ground (center balls)", N14 VSS (power) "Digital Ground (center balls)", N15 VSS (power) "Digital Ground (center balls)", N16 VSS (power) "Digital Ground (center balls)", N17 VSS (power) "Digital Ground (center balls)", P12 VSS (power) "Digital Ground (center balls)", P13 VSS (power) "Digital Ground (center balls)", P15 VSS (power) "Digital Ground (center balls)", P16 VSS (power) "Digital Ground (center balls)", P18 VSS (power) "Digital Ground (center balls)", P19 VSS (power) "Digital Ground (center balls)", P25 VSSOSC (power), R1 VSSP (power) "Digital Ground", R2 VSSP (power) "Digital Ground", R6 VSSP (power) "Digital Ground", R12 VSS (power) "Digital Ground (center balls)", R13 VSS (power) "Digital Ground (center balls)", R14 VSS (power) "Digital Ground (center balls)", R15 VSS (power) "Digital Ground (center balls)", R16 VSS (power) "Digital Ground (center balls)", R17 VSS (power) "Digital Ground (center balls)", R18 VSS (power) "Digital Ground (center balls)", R19 VSS (power) "Digital Ground (center balls)", R29 VSSOSC (power), R30 VSSOSC (power), T12 VSS (power) "Digital Ground (center balls)", T13 VSS (power) "Digital Ground (center balls)", T14 VSS (power) "Digital Ground (center balls)", T15 VSS (power) "Digital Ground (center balls)", T16 VSS (power) "Digital Ground (center balls)", T17 VSS (power) "Digital Ground (center balls)", T18 VSS (power) "Digital Ground (center balls)", T19 VSS (power) "Digital Ground (center balls)", T24 VSS (power) "Digital Ground", T25 VSS (power) "Digital Ground", T29 VSS (power) "Digital Ground", T30 VSS (power) "Digital Ground", U12 VSS (power) "Digital Ground (center balls)", U13 VSS (power) "Digital Ground (center balls)", U15 VSS (power) "Digital Ground (center balls)", U16 VSS (power) "Digital Ground (center balls)", U18 VSS (power) "Digital Ground (center balls)", U19 VSS (power) "Digital Ground (center balls)", V14 VSS (power) "Digital Ground (center balls)", V15 VSS (power) "Digital Ground (center balls)", V16 VSS (power) "Digital Ground (center balls)", V17 VSS (power) "Digital Ground (center balls)", W14 VSS (power) "Digital Ground (center balls)", W15 VSS (power) "Digital Ground (center balls)", W16 VSS (power) "Digital Ground (center balls)", W17 VSS (power) "Digital Ground (center balls)", Y1 VSSM (power) "ADC Analog Part Ground", Y2 VSSM (power) "ADC Analog Part Ground", Y6 VSSM (power) "ADC Analog Part Ground"
part F pins: A1 NC "Not connected.", A3 NC "Not connected.", A4 NC "Not connected.", A5 NC "Not connected.", A14 NC "Not connected.", A17 NC "Not connected.", A23 NC "Not connected.", A24 NC "Not connected.", A25 NC "Not connected.", A26 NC "Not connected.", AE6 NC "Not connected.", AH1 NC "Not connected.", AH2 NC "Not connected.", AJ1 NC "Not connected.", AJ2 NC "Not connected.", AJ3 NC "Not connected.", AJ4 NC "Not connected.", AJ12 NC "Not connected.", AK1 NC "Not connected.", AK2 NC "Not connected.", AK3 NC "Not connected.", AK4 NC "Not connected.", AK12 NC "Not connected.", AK13 NC "Not connected.", B1 NC "Not connected.", B4 NC "Not connected.", B5 NC "Not connected.", B14 NC "Not connected.", B17 NC "Not connected.", B23 NC "Not connected.", B24 NC "Not connected.", B25 NC "Not connected.", B26 NC "Not connected.", C1 NC "Not connected.", C2 NC "Not connected.", C29 NC "Not connected.", D1 NC "Not connected.", D2 NC "Not connected.", E1 NC "Not connected.", E2 NC "Not connected.", F1 NC "Not connected.", F2 NC "Not connected.", F6 NC "Not connected.", G1 NC "Not connected.", G2 NC "Not connected.", N1 NC "Not connected.", N2 NC "Not connected.", U1 NC "Not connected.", U2 NC "Not connected.", V1 NC "Not connected.", V2 NC "Not connected."

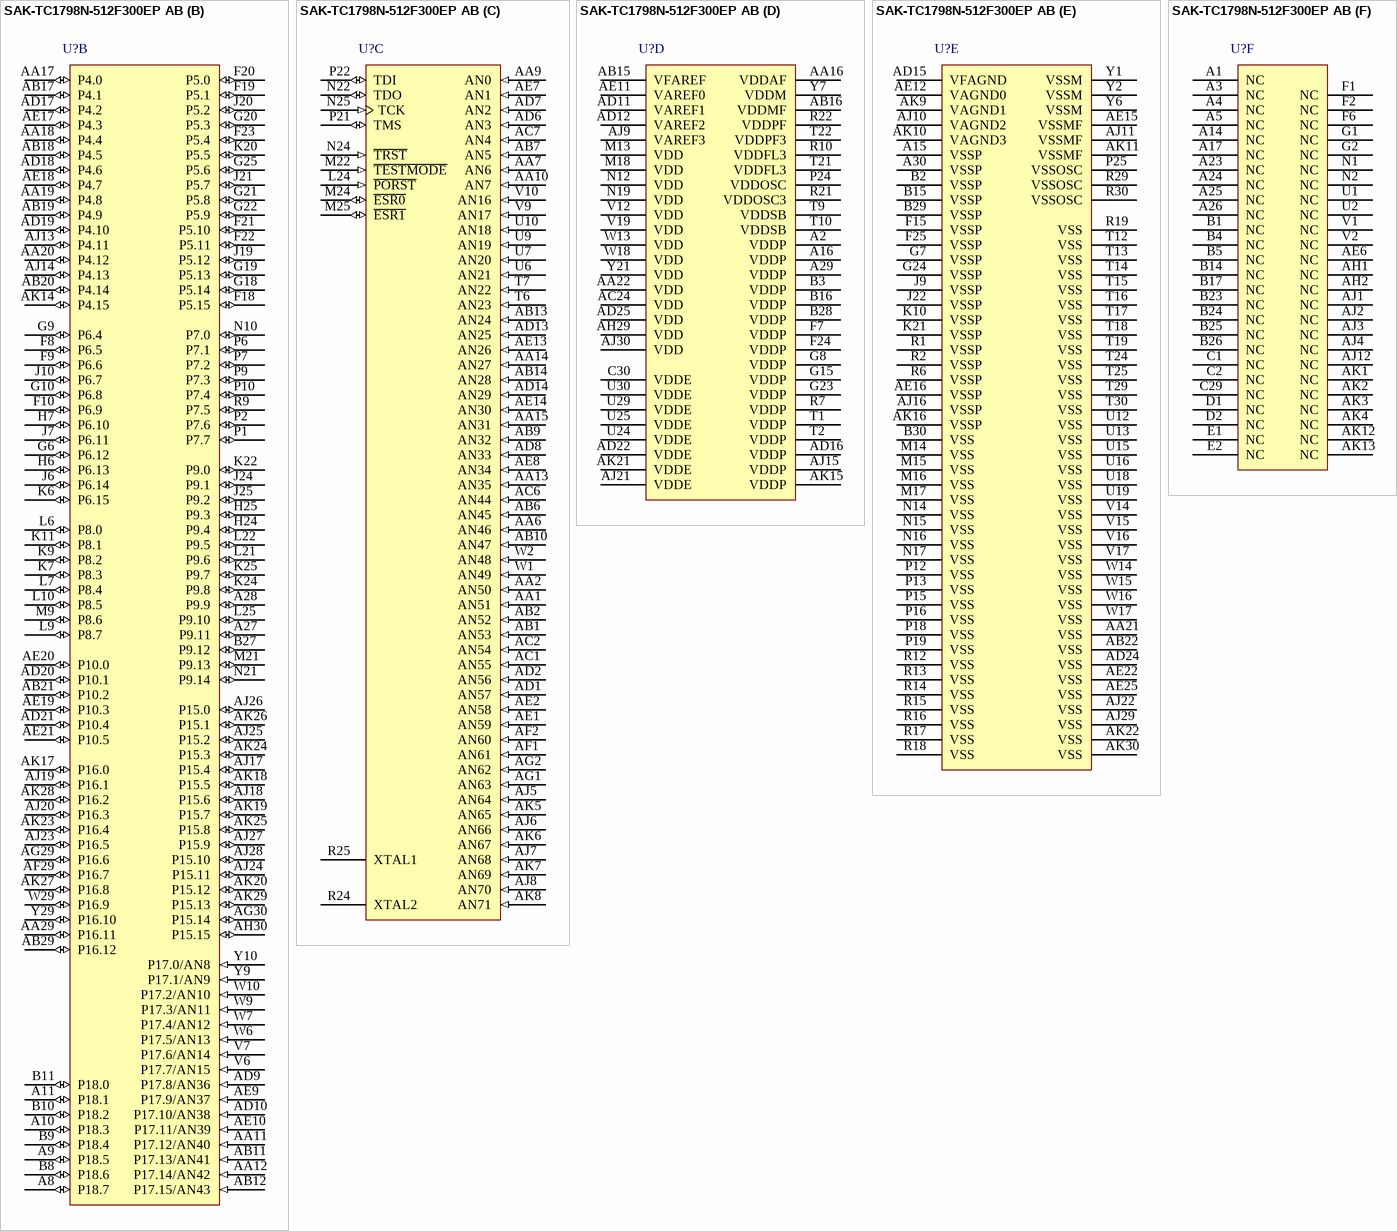
[diagram p62: symbol SAK-TC1798N-512F300EP AB]

## SAK-TC1798N-512F300EP AB
designator U?
300 MHz AUDO MCU with 4 MB Program Memory, 288 KByte SRAM, 3.3 V, -40 to 125 degC, PG-LFBGA-516, Reel, Green; Manufacturer: Infineon; PartNumber: SAK-TC1798N-512F300EP AB; A / D input lines (incl. FADC): 72; CAN Nodes: 4; Digital I/O Lines: 238; DMA Channels: 24; DSP functionality (e.g MDU/MAC): TRUE; FlexRay TM: FALSE; I/O Operation Voltages: 3.3 V; Instruction set architecture: TriCore v1.6; Instruction width [bits]: 32/16; LIN BSL loader (for fast Flash programming): FALSE; Max Clock Frequency: 300 MHz; Power Modes: 3; Program Memory: 4 MB; Serial I/O Interfaces: 9; Timed I/O Pins (PWM-Ch,CAPCOM): 138; Timer / Counter: 246; Type of Memory: Flash; Type of Serial I/O Interfaces: ASC(2), SSC(3), MSC(2), MLI(2); DatasheetVersion: Rev. 1.0; PackageVersion: V 1.0, 03/2012; PackageReference: PG-LFBGA-516-1; PackageDescription: 516-Pin Plastic (Green) Low Profile Fine Pitch Ball Grid Array Package, Body 25 x 25 mm, Pitch 0.8 mm; E2PROM Emulation (Data-Flash): TRUE; External Bus interface: TRUE; Floating Point Unit: TRUE; Green: TRUE; Halogen-free: TRUE; Number of ADC Modules: 4; On-chip clock generation: TRUE; On-chip Voltage Regulator: FALSE; Oscillator Watchdog: TRUE; Packing: Reel; Peripheral Control Processor (PCP): TRUE; SRAM (incl. Cache): 288 KByte; Watchdog Timer: TRUE; Mounting Technology: Surface Mount; Code_JEDEC: J-STD-020C; ComponentLink1Description: Manufacturer URL; ComponentLink1URL: http://www.infineon.com/; ComponentLink2Description: Datasheet; ComponentLink2URL: http://www.infineon.com/dgdl/TC1798_DS_v10.pdf?folderId=db3a304326dfb1300127000d958f65bb&fileId=db3a304336797ff90136ab7ac48c4d00; ComponentLink3Description: Package Specification; ComponentLink3URL: http://www.infineon.com/dgdl/TC1798_DS_v10.pdf?folderId=db3a304326dfb1300127000d958f65bb&fileId=db3a304336797ff90136ab7ac48c4d00
footprint INF-PG-LFBGA-516-1 (BGA, 516-Balls, Body 25x25mm, Pitch 0.8mm)
part A pins: A6 P2.11 (io), A7 P2.15 (io), A12 P0.15 (io), A13 P3.15 (io), A18 P3.13 (io), A19 P3.9 (io), A20 P3.7 (io), A21 P3.5 (io), A22 P3.2 (io), AA24 P13.13 (io), AA25 P13.14 (io), AA30 P14.5 (io), AB24 P13.15 (io), AB25 P14.0 (io), AB30 P14.7 (io), AC25 P14.2 (io), AC29 P14.10 (io), AC30 P14.9 (io), AD23 P14.4 (io), AD29 P14.12 (io), AD30 P14.11 (io), AE23 P14.8 (io), AE24 P14.6 (io), AE29 P14.14 (io), AE30 P14.13 (io), AF30 P14.15 (io), B6 P2.9 (io), B7 P2.13 (io), B12 P0.8 (io), B13 P3.14 (io), B18 P3.11 (io), B19 P3.8 (io), B20 P3.6 (io), B21 P3.3 (io), B22 P3.1 (io), D29 P12.7 (io), D30 P12.6 (io), E29 P11.1 (io), E30 P11.0 (io), F11 P2.2 (io), F12 P2.8 (io), F13 P2.14 (io), F14 P0.14 (io), F16 P0.12 (io), F17 P0.11 (io), F29 P11.3 (io), F30 P11.2 (io), G11 P2.3 (io), G12 P2.7 (io), G13 P2.12 (io), G14 P0.9 (io), G16 P0.13 (io), G17 P0.10 (io), G29 P11.5 (io), G30 P11.4 (io), H1 P1.15 (io), H2 P1.14 (io), H29 P11.7 (io), H30 P11.6 (io), J1 P1.13 (io), J2 P1.5 (io), J11 P2.4 (io), J12 P2.5 (io), J13 P2.10 (io), J14 P0.6 (io), J15 P0.4 (io), J16 P0.2 (io), J17 P0.0 (io), J18 P3.10 (io), J29 P11.9 (io), J30 P11.8 (io), K1 P1.11 (io), K2 P1.10 (io), K12 P2.6 (io), K13 P0.7 (io), K14 P0.5 (io), K15 P0.3 (io), K16 P0.1 (io), K17 P3.12 (io), K18 P3.4 (io), K19 P3.0 (io), K29 P11.11 (io), K30 P11.10 (io), L1 P1.4 (io), L2 P1.8 (io), L29 P11.13 (io), L30 P11.12 (io), M1 P1.3 (io), M2 P1.2 (io), M6 P1.7 (io), M7 P1.6 (io), M10 P1.9 (io), M29 P11.15 (io), M30 P11.14 (io), N6 P1.0 (io), N7 P1.12 (io), N9 P1.1 (io), N29 P12.1 (io), N30 P12.0 (io), P29 P12.3 (io), P30 P12.2 (io), U21 P13.0 (io), U22 P13.1 (io), V21 P13.2 (io), V22 P13.3 (io), V24 P13.4 (io), V25 P13.5 (io), V29 P12.5 (io), V30 P12.4 (io), W21 P13.6 (io), W22 P13.7 (io), W24 P13.8 (io), W25 P13.9 (io), W30 P14.1 (io), Y22 P13.10 (io), Y24 P13.11 (io), Y25 P13.12 (io), Y30 P14.3 (io)
part B pins: A8 P18.7 (io), A9 P18.5 (io), A10 P18.3 (io), A11 P18.1 (io), A27 P9.11 (io), A28 P9.9 (io), AA11 P17.12/AN40 (in), AA12 P17.14/AN42 (in), AA17 P4.0 (io), AA18 P4.4 (io), AA19 P4.8 (io), AA20 P4.12 (io), AA29 P16.11 (io), AB11 P17.13/AN41 (in), AB12 P17.15/AN43 (in), AB17 P4.1 (io), AB18 P4.5 (io), AB19 P4.9 (io), AB20 P4.14 (io), AB21 P10.2 (io), AB29 P16.12 (io), AD9 P17.8/AN36 (in), AD10 P17.10/AN38 (in), AD17 P4.2 (io), AD18 P4.6 (io), AD19 P4.10 (io), AD20 P10.1 (io), AD21 P10.4 (io), AE9 P17.9/AN37 (in), AE10 P17.11/AN39 (in), AE17 P4.3 (io), AE18 P4.7 (io), AE19 P10.3 (io), AE20 P10.0 (io), AE21 P10.5 (io), AF29 P16.7 (io), AG29 P16.6 (io), AG30 P15.14 (io), AH30 P15.15 (io), AJ13 P4.11 (io), AJ14 P4.13 (io), AJ17 P15.4 (io), AJ18 P15.6 (io), AJ19 P16.1 (io), AJ20 P16.3 (io), AJ23 P16.5 (io), AJ24 P15.11 (io), AJ25 P15.2 (io), AJ26 P15.0 (io), AJ27 P15.9 (io), AJ28 P15.10 (io), AK14 P4.15 (io), AK17 P16.0 (io), AK18 P15.5 (io), AK19 P15.7 (io), AK20 P15.12 (io), AK23 P16.4 (io), AK24 P15.3 (io), AK25 P15.8 (io), AK26 P15.1 (io), AK27 P16.8 (io), AK28 P16.2 (io), AK29 P15.13 (io), B8 P18.6 (io), B9 P18.4 (io), B10 P18.2 (io), B11 P18.0 (io), B27 P9.12 (io), F8 P6.5 (io), F9 P6.6 (io), F10 P6.9 (io), F18 P5.15 (io), F19 P5.1 (io), F20 P5.0 (io), F21 P5.10 (io), F22 P5.11 (io), F23 P5.4 (io), G6 P6.12 (io), G9 P6.4 (io), G10 P6.8 (io), G18 P5.14 (io), G19 P5.13 (io), G20 P5.3 (io), G21 P5.8 (io), G22 P5.9 (io), G25 P5.6 (io), H6 P6.13 (io), H7 P6.10 (io), H24 P9.4 (io), H25 P9.3 (io), J6 P6.14 (io), J7 P6.11 (io), J10 P6.7 (io), J19 P5.12 (io), J20 P5.2 (io), J21 P5.7 (io), J24 P9.1 (io), J25 P9.2 (io), K6 P6.15 (io), K7 P8.3 (io), K9 P8.2 (io), K11 P8.1 (io), K20 P5.5 (io), K22 P9.0 (io), K24 P9.8 (io), K25 P9.7 (io), L6 P8.0 (io), L7 P8.4 (io), L9 P8.7 (io), L10 P8.5 (io), L21 P9.6 (io), L22 P9.5 (io), L25 P9.10 (io), M9 P8.6 (io), M21 P9.13 (io), N10 P7.0 (io), N21 P9.14 (io), P1 P7.7 (io), P2 P7.6 (io), P6 P7.1 (io), P7 P7.2 (io), P9 P7.3 (io), P10 P7.4 (io), R9 P7.5 (io), V6 P17.7/AN15 (in), V7 P17.6/AN14 (in), W6 P17.5/AN13 (in), W7 P17.4/AN12 (in), W9 P17.3/AN11 (in), W10 P17.2/AN10 (in), W29 P16.9 (io), Y9 P17.1/AN9 (in), Y10 P17.0/AN8 (in), Y29 P16.10 (io)
part C pins: AA1 AN51 (in) "Analog Input 51: ADC3.CH3", AA2 AN50 (in) "Analog Input 50: ADC3.CH2", AA6 AN46 (in) "Analog Input 46: ADC2.CH14", AA7 AN6 (in) "Analog Input 6: ADC0.CH6", AA9 AN0 (in) "Analog Input 0: ADC0.CH0", AA10 AN7 (in) "Analog Input 7: ADC0.CH7", AA13 AN35 (in) "Analog Input 35: ADC2.CH3", AA14 AN27 (in) "Analog Input 27: ADC1.CH11", AA15 AN31 (in) "Analog Input 31: ADC1.CH15", AB1 AN53 (in) "Analog Input 53: ADC3.CH5", AB2 AN52 (in) "Analog Input 52: ADC3.CH4", AB6 AN45 (in) "Analog Input 45: ADC2.CH13", AB7 AN5 (in) "Analog Input 5: ADC0.CH5", AB9 AN32 (in) "Analog Input 32: ADC2.CH0", AB10 AN47 (in) "Analog Input 47: ADC2.CH15", AB13 AN24 (in) "Analog Input 24: ADC1.CH8", AB14 AN28 (in) "Analog Input 28: ADC1.CH12", AC1 AN55 (in) "Analog Input 55: ADC3.CH7", AC2 AN54 (in) "Analog Input 54: ADC3.CH6", AC6 AN44 (in) "Analog Input 44: ADC2.CH12", AC7 AN4 (in) "Analog Input 4: ADC0.CH4", AD1 AN57 (in) "Analog Input 57: ADC3.CH9", AD2 AN56 (in) "Analog Input 56: ADC3.CH8", AD6 AN3 (in) "Analog Input 3: ADC0.CH3", AD7 AN2 (in) "Analog Input 2: ADC0.CH2", AD8 AN33 (in) "Analog Input 33: ADC2.CH1", AD13 AN25 (in) "Analog Input 25: ADC1.CH9", AD14 AN29 (in) "Analog Input 29: ADC1.CH13", AE1 AN59 (in) "Analog Input 59: ADC3.CH11", AE2 AN58 (in) "Analog Input 58: ADC3.CH10", AE7 AN1 (in) "Analog Input 1: ADC0.CH1", AE8 AN34 (in) "Analog Input 34: ADC2.CH2", AE13 AN26 (in) "Analog Input 26: ADC1.CH10", AE14 AN30 (in) "Analog Input 30: ADC1.CH14", AF1 AN61 (in) "Analog Input 61: ADC3.CH13", AF2 AN60 (in) "Analog Input 60: ADC3.CH12", AG1 AN63 (in) "Analog Input 63: ADC3.CH15", AG2 AN62 (in) "Analog Input 62: ADC3.CH14", AJ5 AN64 (in) "Analog Input 64: FADC_FADIN0P", AJ6 AN66 (in) "Analog Input 66: FADC_FADIN1P", AJ7 AN68 (in) "Analog Input 68: FADC_FADIN2P", AJ8 AN70 (in) "Analog Input 70: FADC_FADIN3P", AK5 AN65 (in) "Analog Input 65: FADC_FADIN0N", AK6 AN67 (in) "Analog Input 67: FADC_FADIN1N", AK7 AN69 (in) "Analog Input 69: FADC_FADIN2N", AK8 AN71 (in) "Analog Input 71: FADC_FADIN3N", L24 ~{PORST} (in) "Power-on Reset Input", M22 ~{TESTMODE} (in) "Test Mode Select Input", M24 ~{ESR0} (io) "External System Request Reset Input 0", M25 ~{ESR1} (io) "External System Request Reset Input 1", N22 TDO (io), N24 ~{TRST} (in) "JTAG Module Reset/Enable Input", N25 TCK (in), P21 TMS (io), P22 TDI (io), R24 XTAL2 "Main Oscillator/PLL/Clock Generator Output", R25 XTAL1 "Main Oscillator/PLL/Clock Generator Input", T6 AN23 (in) "Analog Input 23: ADC1.CH7", T7 AN22 (in) "Analog Input 22: ADC1.CH6", U6 AN21 (in) "Analog Input 21: ADC1.CH5", U7 AN20 (in) "Analog Input 20: ADC1.CH4", U9 AN19 (in) "Analog Input 19: ADC1.CH3", U10 AN18 (in) "Analog Input 18: ADC1.CH2", V9 AN17 (in) "Analog Input 17: ADC1.CH1", V10 AN16 (in) "Analog Input 16: ADC1.CH0", W1 AN49 (in) "Analog Input 49: ADC3.CH1", W2 AN48 (in) "Analog Input 48: ADC3.CH0"
part D pins: A2 VDDP (power) "Port Power Supply (3.3V)", A16 VDDP (power) "Port Power Supply (3.3V)", A29 VDDP (power) "Port Power Supply (3.3V)", AA16 VDDAF (power) "FADC Analog Part Logic Power Supply (1.3V)", AA22 VDD (power) "Digital Core Power Supply (1.3V)", AB15 VFAREF (power) "FADC Reference Voltage", AB16 VDDMF (power) "FADC Analog Part Power Supply (3.3V)", AC24 VDD (power) "Digital Core Power Supply (1.3V)", AD11 VAREF1 (power) "ADC1 Reference Voltage", AD12 VAREF2 (power) "ADC2 Reference Voltage", AD16 VDDP (power) "Port Power Supply (3.3V)", AD22 VDDE (power) "EBU Port Power Supply (1.8 - 2.5V - 3.3V)", AD25 VDD (power) "Digital Core Power Supply (1.3V)", AE11 VAREF0 (power) "ADC0 Reference Voltage", AH29 VDD (power) "Digital Core Power Supply (1.3V)", AJ9 VAREF3 (power) "ADC3 Reference Voltage", AJ15 VDDP (power) "Port Power Supply (3.3V)", AJ21 VDDE (power) "EBU Port Power Supply (1.8 - 2.5V - 3.3V)", AJ30 VDD (power) "Digital Core Power Supply (1.3V)", AK15 VDDP (power) "Port Power Supply (3.3V)", AK21 VDDE (power) "EBU Port Power Supply (1.8 - 2.5V - 3.3V)", B3 VDDP (power) "Port Power Supply (3.3V)", B16 VDDP (power) "Port Power Supply (3.3V)", B28 VDDP (power) "Port Power Supply (3.3V)", C30 VDDE (power) "EBU Port Power Supply (1.8 - 2.5V - 3.3V)", F7 VDDP (power) "Port Power Supply (3.3V)", F24 VDDP (power) "Port Power Supply (3.3V)", G8 VDDP (power) "Port Power Supply (3.3V)", G15 VDDP (power) "Port Power Supply (3.3V)", G23 VDDP (power) "Port Power Supply (3.3V)", M13 VDD (power) "Digital Core Power Supply (1.3V, center balls)", M18 VDD (power) "Digital Core Power Supply (1.3V, center balls)", N12 VDD (power) "Digital Core Power Supply (1.3V, center balls)", N19 VDD (power) "Digital Core Power Supply (1.3V, center balls)", P24 VDDOSC (power) "Main Oscillator Power Supply (1.3V)", R7 VDDP (power) "Port Power Supply (3.3V)", R10 VDDFL3 (power) "Flash Power Supply (3.3V)", R21 VDDOSC3 (power) "Main Oscillator Power Supply (3.3V)", R22 VDDPF (power) "E-Ray PLL Power Supply (1.3V)", T1 VDDP (power) "Port Power Supply (3.3V)", T2 VDDP (power) "Port Power Supply (3.3V)", T9 VDDSB (power) "Emulation Stand-by SRAM Power Supply (1.3V) (Emulation device only)", T10 VDDSB (power) "Emulation Stand-by SRAM Power Supply (1.3V) (Emulation device only)", T21 VDDFL3 (power) "Flash Power Supply (3.3V)", T22 VDDPF3 (power) "E-Ray PLL Power Supply (3.3V)", U24 VDDE (power) "EBU Port Power Supply (1.8 - 2.5V - 3.3V)", U25 VDDE (power) "EBU Port Power Supply (1.8 - 2.5V - 3.3V)", U29 VDDE (power) "EBU Port Power Supply (1.8 - 2.5V - 3.3V)", U30 VDDE (power) "EBU Port Power Supply (1.8 - 2.5V - 3.3V)", V12 VDD (power) "Digital Core Power Supply (1.3V, center balls)", V19 VDD (power) "Digital Core Power Supply (1.3V, center balls)", W13 VDD (power) "Digital Core Power Supply (1.3V, center balls)", W18 VDD (power) "Digital Core Power Supply (1.3V, center balls)", Y7 VDDM (power) "ADC Analog Part Power Supply (3.3V - 5V)", Y21 VDD (power) "Digital Core Power Supply (1.3V)"
part E pins: A15 VSSP (power) "Digital Ground", A30 VSSP (power) "Digital Ground", AA21 VSS (power) "Digital Ground (center balls)", AB22 VSS (power) "Digital Ground (center balls)", AD15 VFAGND (power) "FADC Reference Ground", AD24 VSS (power) "Digital Ground (center balls)", AE12 VAGND0 (power) "ADC0 Reference Ground", AE15 VSSMF (power), AE16 VSSP (power) "Digital Ground", AE22 VSS (power) "Digital Ground", AE25 VSS (power) "Digital Ground (center balls)", AJ10 VAGND2 (power) "ADC2 Reference Ground", AJ11 VSSMF (power), AJ16 VSSP (power) "Digital Ground", AJ22 VSS (power) "Digital Ground", AJ29 VSS (power) "Digital Ground (center balls)", AK9 VAGND1 (power) "ADC1 Reference Ground", AK10 VAGND3 (power) "ADC3 Reference Ground", AK11 VSSMF (power), AK16 VSSP (power) "Digital Ground", AK22 VSS (power) "Digital Ground", AK30 VSS (power) "Digital Ground (center balls)", B2 VSSP (power) "Digital Ground", B15 VSSP (power) "Digital Ground", B29 VSSP (power) "Digital Ground", B30 VSS (power) "Digital Ground", F15 VSSP (power) "Digital Ground", F25 VSSP (power) "Digital Ground", G7 VSSP (power) "Digital Ground", G24 VSSP (power) "Digital Ground", J9 VSSP (power) "Digital Ground", J22 VSSP (power) "Digital Ground", K10 VSSP (power) "Digital Ground", K21 VSSP (power) "Digital Ground", M14 VSS (power) "Digital Ground (center balls)", M15 VSS (power) "Digital Ground (center balls)", M16 VSS (power) "Digital Ground (center balls)", M17 VSS (power) "Digital Ground (center balls)", N14 VSS (power) "Digital Ground (center balls)", N15 VSS (power) "Digital Ground (center balls)", N16 VSS (power) "Digital Ground (center balls)", N17 VSS (power) "Digital Ground (center balls)", P12 VSS (power) "Digital Ground (center balls)", P13 VSS (power) "Digital Ground (center balls)", P15 VSS (power) "Digital Ground (center balls)", P16 VSS (power) "Digital Ground (center balls)", P18 VSS (power) "Digital Ground (center balls)", P19 VSS (power) "Digital Ground (center balls)", P25 VSSOSC (power), R1 VSSP (power) "Digital Ground", R2 VSSP (power) "Digital Ground", R6 VSSP (power) "Digital Ground", R12 VSS (power) "Digital Ground (center balls)", R13 VSS (power) "Digital Ground (center balls)", R14 VSS (power) "Digital Ground (center balls)", R15 VSS (power) "Digital Ground (center balls)", R16 VSS (power) "Digital Ground (center balls)", R17 VSS (power) "Digital Ground (center balls)", R18 VSS (power) "Digital Ground (center balls)", R19 VSS (power) "Digital Ground (center balls)", R29 VSSOSC (power), R30 VSSOSC (power), T12 VSS (power) "Digital Ground (center balls)", T13 VSS (power) "Digital Ground (center balls)", T14 VSS (power) "Digital Ground (center balls)", T15 VSS (power) "Digital Ground (center balls)", T16 VSS (power) "Digital Ground (center balls)", T17 VSS (power) "Digital Ground (center balls)", T18 VSS (power) "Digital Ground (center balls)", T19 VSS (power) "Digital Ground (center balls)", T24 VSS (power) "Digital Ground", T25 VSS (power) "Digital Ground", T29 VSS (power) "Digital Ground", T30 VSS (power) "Digital Ground", U12 VSS (power) "Digital Ground (center balls)", U13 VSS (power) "Digital Ground (center balls)", U15 VSS (power) "Digital Ground (center balls)", U16 VSS (power) "Digital Ground (center balls)", U18 VSS (power) "Digital Ground (center balls)", U19 VSS (power) "Digital Ground (center balls)", V14 VSS (power) "Digital Ground (center balls)", V15 VSS (power) "Digital Ground (center balls)", V16 VSS (power) "Digital Ground (center balls)", V17 VSS (power) "Digital Ground (center balls)", W14 VSS (power) "Digital Ground (center balls)", W15 VSS (power) "Digital Ground (center balls)", W16 VSS (power) "Digital Ground (center balls)", W17 VSS (power) "Digital Ground (center balls)", Y1 VSSM (power) "ADC Analog Part Ground", Y2 VSSM (power) "ADC Analog Part Ground", Y6 VSSM (power) "ADC Analog Part Ground"
part F pins: A1 NC "Not connected.", A3 NC "Not connected.", A4 NC "Not connected.", A5 NC "Not connected.", A14 NC "Not connected.", A17 NC "Not connected.", A23 NC "Not connected.", A24 NC "Not connected.", A25 NC "Not connected.", A26 NC "Not connected.", AE6 NC "Not connected.", AH1 NC "Not connected.", AH2 NC "Not connected.", AJ1 NC "Not connected.", AJ2 NC "Not connected.", AJ3 NC "Not connected.", AJ4 NC "Not connected.", AJ12 NC "Not connected.", AK1 NC "Not connected.", AK2 NC "Not connected.", AK3 NC "Not connected.", AK4 NC "Not connected.", AK12 NC "Not connected.", AK13 NC "Not connected.", B1 NC "Not connected.", B4 NC "Not connected.", B5 NC "Not connected.", B14 NC "Not connected.", B17 NC "Not connected.", B23 NC "Not connected.", B24 NC "Not connected.", B25 NC "Not connected.", B26 NC "Not connected.", C1 NC "Not connected.", C2 NC "Not connected.", C29 NC "Not connected.", D1 NC "Not connected.", D2 NC "Not connected.", E1 NC "Not connected.", E2 NC "Not connected.", F1 NC "Not connected.", F2 NC "Not connected.", F6 NC "Not connected.", G1 NC "Not connected.", G2 NC "Not connected.", N1 NC "Not connected.", N2 NC "Not connected.", U1 NC "Not connected.", U2 NC "Not connected.", V1 NC "Not connected.", V2 NC "Not connected."

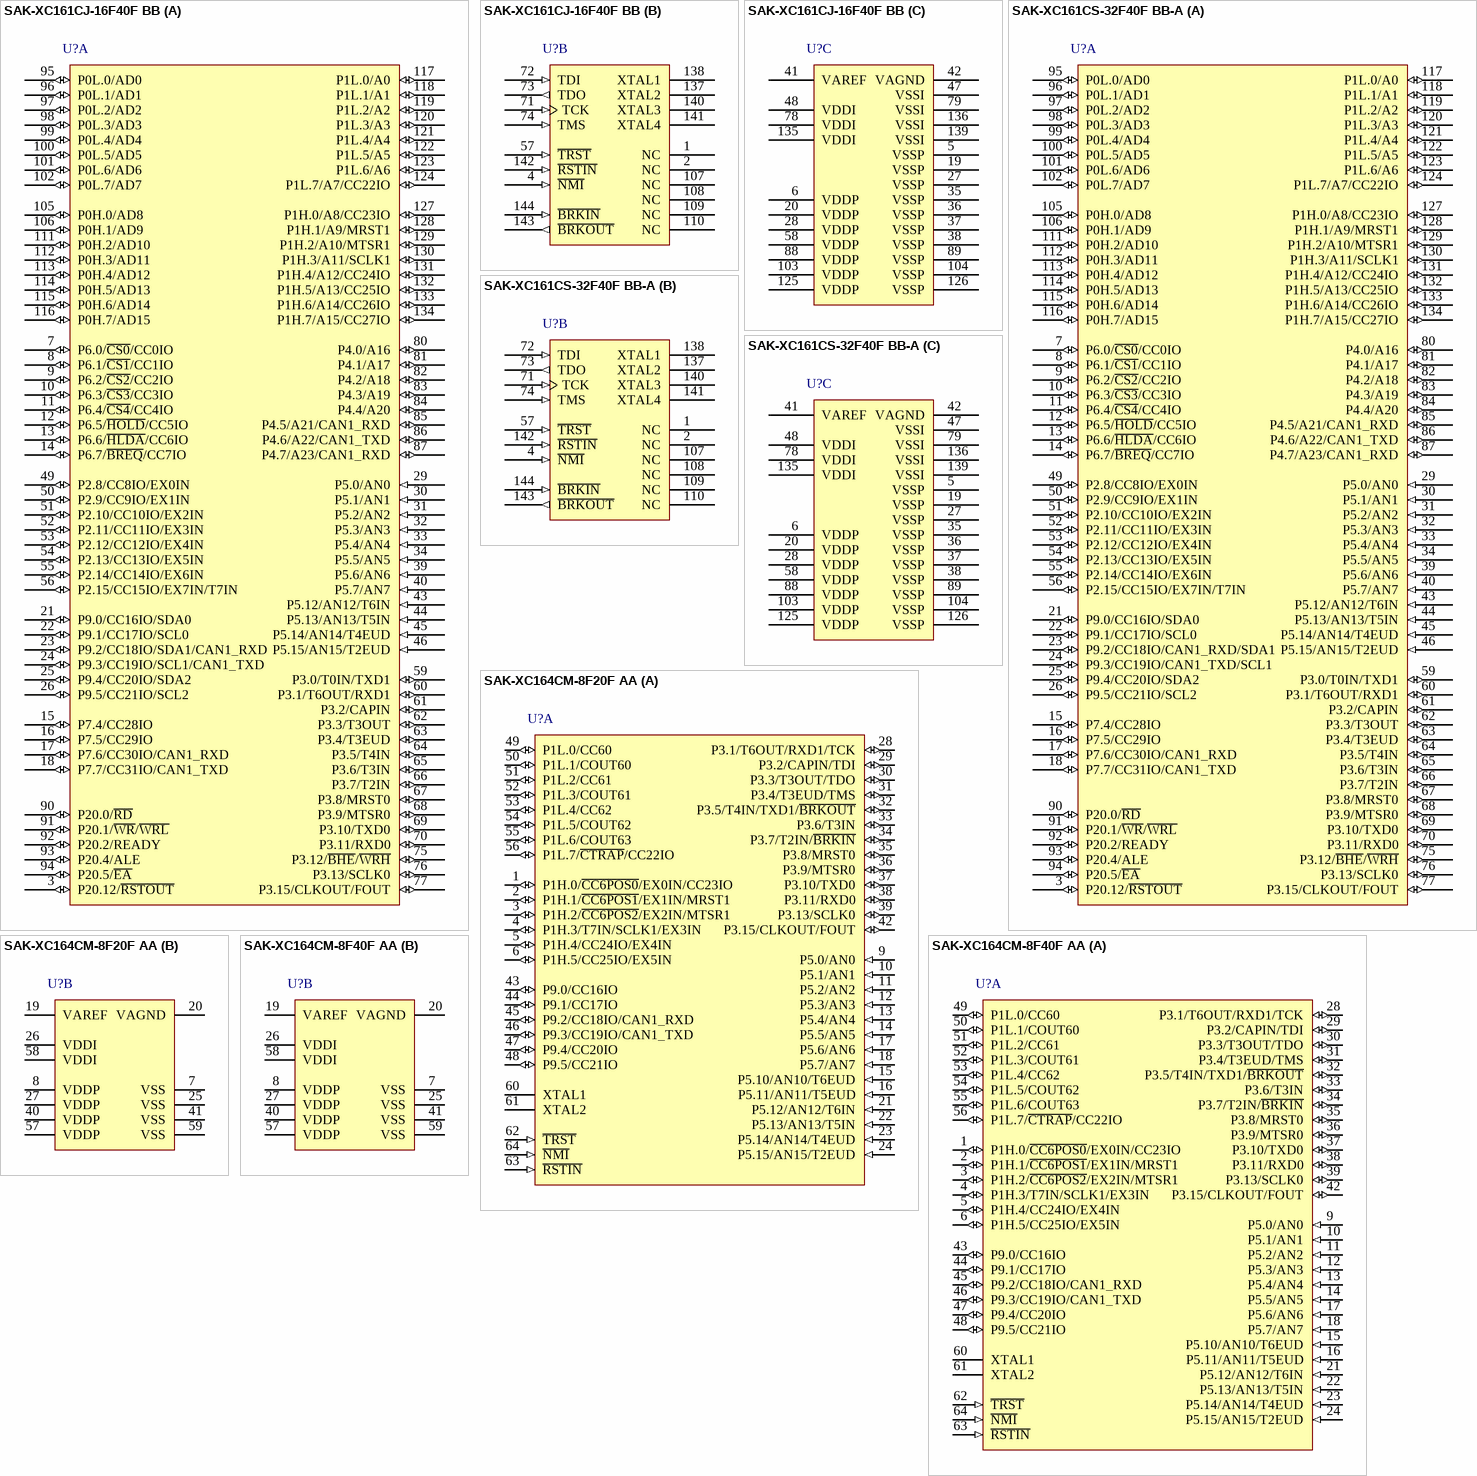
[diagram p63: symbols SAK-XC161CJ-16F40F BB to SAK-XC164CM-8F40F AA]